# EAGLE library part PBSS4350 (library MDB_HOME)
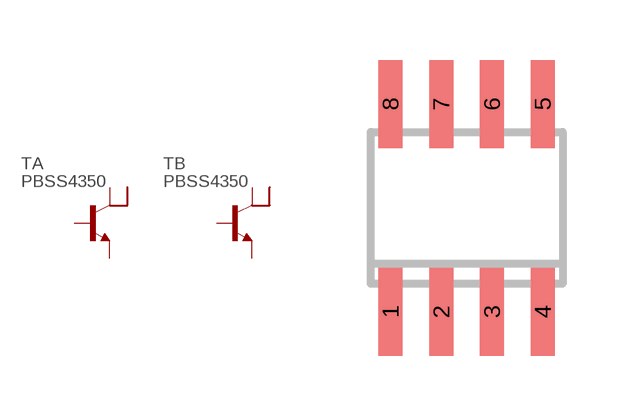
[diagram p7: symbol with the pads of SO8; footprint SO8]

Designator prefix T; gates A=NPN_2C B=NPN_2C

## PBSS4350_1  [SO8]
1  A:E  pas
2  A:B  pas
3  B:E  pas
4  B:B  pas
5  B:C1  pas
6  B:C  pas
7  A:C1  pas
8  A:C  pas

## Footprint SO8 (pad centres in mm)
SMALL OUTLINE INTEGRATED CIRCUIT
smd 0.6 x 2.2: 1 -1.905,-2.6; 2 -0.635,-2.6; 3 0.635,-2.6; 4 1.905,-2.6; 5 1.905,2.6; 6 0.635,2.6; 7 -0.635,2.6; 8 -1.905,2.6